# EAGLE library part AMPHENOL-T821120A1R100CEU (library connectors)
Amphenol T821120A1R100CEU 2x10 pin 2.54mm pitch 2.54mm row spacing IDC Male Angle THT
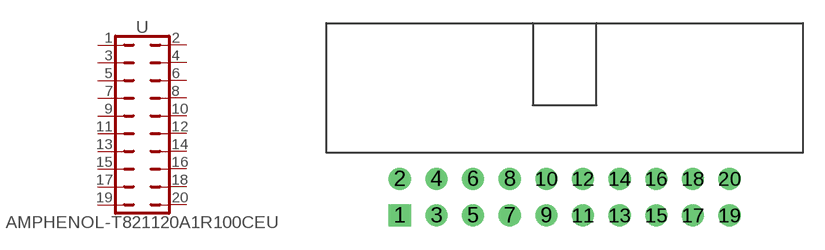
[diagram p2: symbol with the pads of AMPHENOL-T821120A1R100CEU; footprint AMPHENOL-T821120A1R100CEU]

Designator prefix -

## AMPHENOL-T821120A1R100CEU  [AMPHENOL-T821120A1R100CEU]
1  1
2  2
3  3
4  4
5  5
6  6
7  7
8  8
9  9
10  10
11  11
12  12
13  13
14  14
15  15
16  16
17  17
18  18
19  19
20  20

## Footprint AMPHENOL-T821120A1R100CEU (pad centres in mm)
2x10 pin 2.54mm pitch 2.54mm row spacing IDC Male Angle THT
drill 1.02 square: 1 -11.43,-1.27
drill 1.02: 2 -11.43,1.27; 3 -8.89,-1.27; 4 -8.89,1.27; 5 -6.35,-1.27; 6 -6.35,1.27; 7 -3.81,-1.27; 8 -3.81,1.27; 9 -1.27,-1.27; 10 -1.27,1.27; 11 1.27,-1.27; 12 1.27,1.27; 13 3.81,-1.27; 14 3.81,1.27; 15 6.35,-1.27; 16 6.35,1.27; 17 8.89,-1.27; 18 8.89,1.27; 19 11.43,-1.27; 20 11.43,1.27